# Altium schematic symbol library RM14I_CORE_3C95_4.Schlib: 1 symbol
Pins are listed as number, name and electrical type; pins without a type are passive.

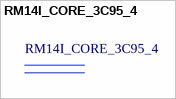
[diagram p0: symbol RM14I_CORE_3C95_4]

## RM14I_CORE_3C95_4
designator CORE?